# Altium schematic symbol library MCU_ST_STM8.SchLib: 34 symbols
Pins are listed as number, name and electrical type; pins without a type are passive.

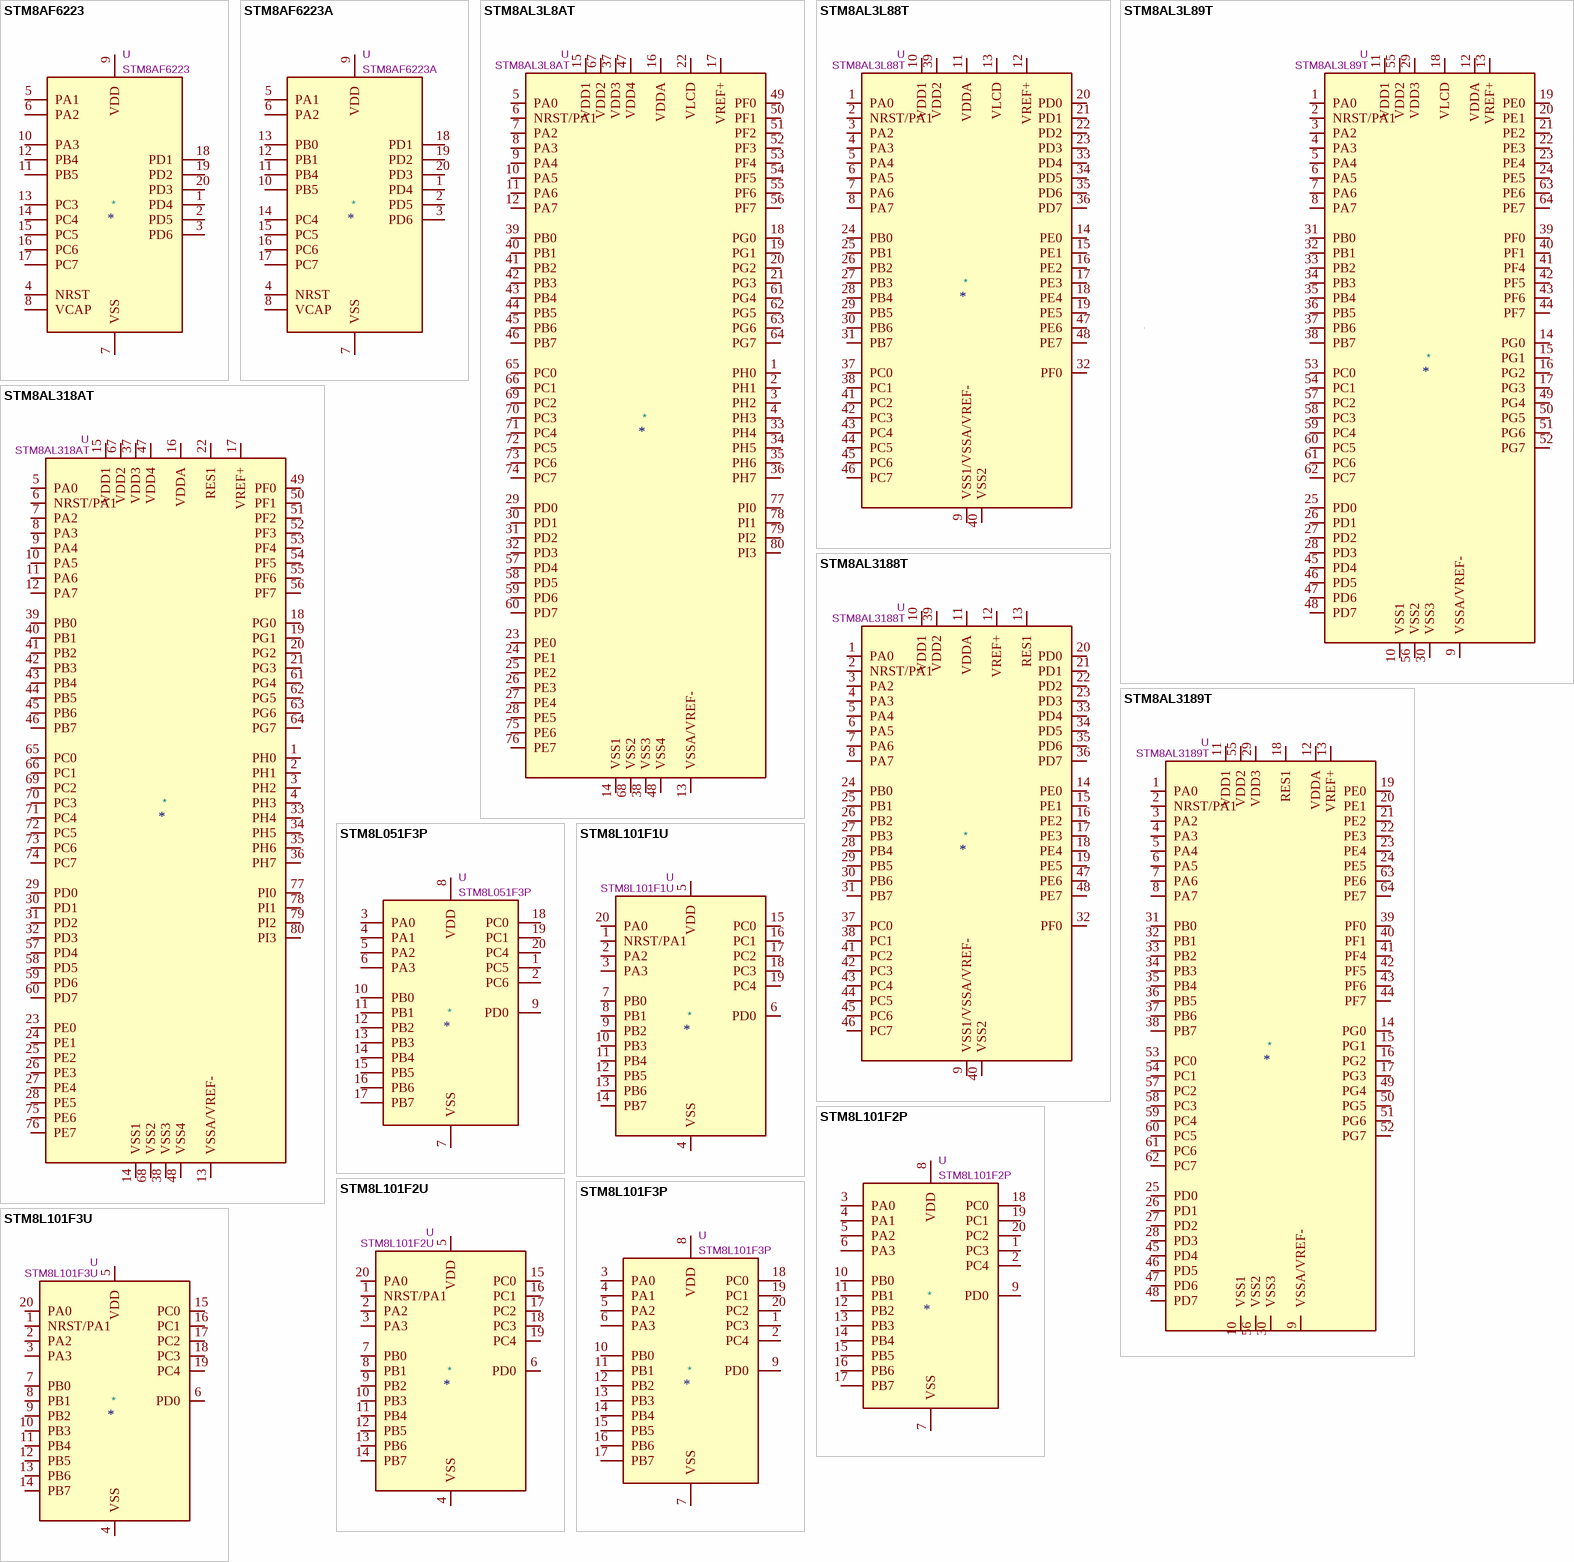
[diagram p0: symbols STM8AF6223 to STM8L101F3U]

## STM8AF6223
designator *  value STM8AF6223  Reference: U
ki_keywords: STM8 Microcontroller Automotive Line; ki_description: 16MHz, 8K Flash, 1K RAM, 640 EEPROM, USART, LIN,  I²C, SPI, ADC, TSSOP-20; ki_fp_filters: TSSOP*4.4x6.5mm*P0.65mm*; Footprint: Package_SO:TSSOP-20_4.4x6.5mm_P0.65mm; Datasheet: http://www.st.com/resource/en/datasheet/stm8af6223.pdf
pins: 1 PD4, 2 PD5, 3 PD6, 4 NRST, 5 PA1, 6 PA2, 7 VSS, 8 VCAP, 9 VDD, 10 PA3, 11 PB5, 12 PB4, 13 PC3, 14 PC4, 15 PC5, 16 PC6, 17 PC7, 18 PD1, 19 PD2, 20 PD3

## STM8AF6223A
designator *  value STM8AF6223A  Reference: U
ki_keywords: STM8 Microcontroller Automotive Line; ki_description: 16MHz, 8K Flash, 1K RAM, 640 EEPROM, USART, LIN,  I²C, SPI, ADC, TSSOP-20; ki_fp_filters: TSSOP*4.4x6.5mm*P0.65mm*; Footprint: Package_SO:TSSOP-20_4.4x6.5mm_P0.65mm; Datasheet: http://www.st.com/resource/en/datasheet/stm8af6223.pdf
pins: 1 PD4, 2 PD5, 3 PD6, 4 NRST, 5 PA1, 6 PA2, 7 VSS, 8 VCAP, 9 VDD, 10 PB5, 11 PB4, 12 PB1, 13 PB0, 14 PC4, 15 PC5, 16 PC6, 17 PC7, 18 PD1, 19 PD2, 20 PD3

## STM8AL3L8AT
designator *  value STM8AL3L8AT  Reference: U
ki_keywords: STM8 automotive ultra-low-power; ki_description: Automotive 8-bit ultra-low-power MCU, 64-Kbyte Flash with LCD, LQFP-80; ki_fp_filters: LQFP*14x14mm*P0.65mm*; Footprint: Package_QFP:LQFP-80_14x14mm_P0.65mm; Datasheet: https://www.st.com/resource/en/datasheet/stm8al3188.pdf
pins: 1 PH0, 2 PH1, 3 PH2, 4 PH3, 5 PA0, 6 NRST/PA1, 7 PA2, 8 PA3, 9 PA4, 10 PA5, 11 PA6, 12 PA7, 13 VSSA/VREF-, 14 VSS1, 15 VDD1, 16 VDDA, 17 VREF+, 18 PG0, 19 PG1, 20 PG2, 21 PG3, 22 VLCD, 23 PE0, 24 PE1, 25 PE2, 26 PE3, 27 PE4, 28 PE5, 29 PD0, 30 PD1, 31 PD2, 32 PD3, 33 PH4, 34 PH5, 35 PH6, 36 PH7, 37 VDD3, 38 VSS3, 39 PB0, 40 PB1, 41 PB2, 42 PB3, 43 PB4, 44 PB5, 45 PB6, 46 PB7, 47 VDD4, 48 VSS4, 49 PF0, 50 PF1, 51 PF2, 52 PF3, 53 PF4, 54 PF5, 55 PF6, 56 PF7, 57 PD4, 58 PD5, 59 PD6, 60 PD7, 61 PG4, 62 PG5, 63 PG6, 64 PG7, 65 PC0, 66 PC1, 67 VDD2, 68 VSS2, 69 PC2, 70 PC3, 71 PC4, 72 PC5, 73 PC6, 74 PC7, 75 PE6, 76 PE7, 77 PI0, 78 PI1, 79 PI2, 80 PI3

## STM8AL3L88T
designator *  value STM8AL3L88T  Reference: U
ki_keywords: STM8 automotive ultra-low-power; ki_description: Automotive 8-bit ultra-low-power MCU, 64-Kbyte Flash with LCD, LQFP-48; ki_fp_filters: LQFP*7x7mm*P0.5mm*; Footprint: Package_QFP:LQFP-48_7x7mm_P0.5mm; Datasheet: https://www.st.com/resource/en/datasheet/stm8al3188.pdf
pins: 1 PA0, 2 NRST/PA1, 3 PA2, 4 PA3, 5 PA4, 6 PA5, 7 PA6, 8 PA7, 9 VSS1/VSSA/VREF-, 10 VDD1, 11 VDDA, 12 VREF+, 13 VLCD, 14 PE0, 15 PE1, 16 PE2, 17 PE3, 18 PE4, 19 PE5, 20 PD0, 21 PD1, 22 PD2, 23 PD3, 24 PB0, 25 PB1, 26 PB2, 27 PB3, 28 PB4, 29 PB5, 30 PB6, 31 PB7, 32 PF0, 33 PD4, 34 PD5, 35 PD6, 36 PD7, 37 PC0, 38 PC1, 39 VDD2, 40 VSS2, 41 PC2, 42 PC3, 43 PC4, 44 PC5, 45 PC6, 46 PC7, 47 PE6, 48 PE7

## STM8AL3L89T
designator *  value STM8AL3L89T  Reference: U
ki_keywords: STM8 automotive ultra-low-power; ki_description: Automotive 8-bit ultra-low-power MCU, 64-Kbyte Flash with LCD, LQFP-64; ki_fp_filters: LQFP*10x10mm*P0.5mm*; Footprint: Package_QFP:LQFP-64_10x10mm_P0.5mm; Datasheet: https://www.st.com/resource/en/datasheet/stm8al3188.pdf
pins: 1 PA0, 2 NRST/PA1, 3 PA2, 4 PA3, 5 PA4, 6 PA5, 7 PA6, 8 PA7, 9 VSSA/VREF-, 10 VSS1, 11 VDD1, 12 VDDA, 13 VREF+, 14 PG0, 15 PG1, 16 PG2, 17 PG3, 18 VLCD, 19 PE0, 20 PE1, 21 PE2, 22 PE3, 23 PE4, 24 PE5, 25 PD0, 26 PD1, 27 PD2, 28 PD3, 29 VDD3, 30 VSS3, 31 PB0, 32 PB1, 33 PB2, 34 PB3, 35 PB4, 36 PB5, 37 PB6, 38 PB7, 39 PF0, 40 PF1, 41 PF4, 42 PF5, 43 PF6, 44 PF7, 45 PD4, 46 PD5, 47 PD6, 48 PD7, 49 PG4, 50 PG5, 51 PG6, 52 PG7, 53 PC0, 54 PC1, 55 VDD2, 56 VSS2, 57 PC2, 58 PC3, 59 PC4, 60 PC5, 61 PC6, 62 PC7, 63 PE6, 64 PE7

## STM8AL318AT
designator *  value STM8AL318AT  Reference: U
ki_keywords: STM8 automotive ultra-low-power; ki_description: Automotive 8-bit ultra-low-power MCU, 64-Kbyte Flash, LQFP-80; ki_fp_filters: LQFP*14x14mm*P0.65mm*; Footprint: Package_QFP:LQFP-80_14x14mm_P0.65mm; Datasheet: https://www.st.com/resource/en/datasheet/stm8al3188.pdf
pins: 1 PH0, 2 PH1, 3 PH2, 4 PH3, 5 PA0, 6 NRST/PA1, 7 PA2, 8 PA3, 9 PA4, 10 PA5, 11 PA6, 12 PA7, 13 VSSA/VREF-, 14 VSS1, 15 VDD1, 16 VDDA, 17 VREF+, 18 PG0, 19 PG1, 20 PG2, 21 PG3, 22 RES1, 23 PE0, 24 PE1, 25 PE2, 26 PE3, 27 PE4, 28 PE5, 29 PD0, 30 PD1, 31 PD2, 32 PD3, 33 PH4, 34 PH5, 35 PH6, 36 PH7, 37 VDD3, 38 VSS3, 39 PB0, 40 PB1, 41 PB2, 42 PB3, 43 PB4, 44 PB5, 45 PB6, 46 PB7, 47 VDD4, 48 VSS4, 49 PF0, 50 PF1, 51 PF2, 52 PF3, 53 PF4, 54 PF5, 55 PF6, 56 PF7, 57 PD4, 58 PD5, 59 PD6, 60 PD7, 61 PG4, 62 PG5, 63 PG6, 64 PG7, 65 PC0, 66 PC1, 67 VDD2, 68 VSS2, 69 PC2, 70 PC3, 71 PC4, 72 PC5, 73 PC6, 74 PC7, 75 PE6, 76 PE7, 77 PI0, 78 PI1, 79 PI2, 80 PI3

## STM8AL3188T
designator *  value STM8AL3188T  Reference: U
ki_keywords: STM8 automotive ultra-low-power; ki_description: Automotive 8-bit ultra-low-power MCU, 64-Kbyte Flash, LQFP-48; ki_fp_filters: LQFP*7x7mm*P0.5mm*; Footprint: Package_QFP:LQFP-48_7x7mm_P0.5mm; Datasheet: https://www.st.com/resource/en/datasheet/stm8al3188.pdf
pins: 1 PA0, 2 NRST/PA1, 3 PA2, 4 PA3, 5 PA4, 6 PA5, 7 PA6, 8 PA7, 9 VSS1/VSSA/VREF-, 10 VDD1, 11 VDDA, 12 VREF+, 13 RES1, 14 PE0, 15 PE1, 16 PE2, 17 PE3, 18 PE4, 19 PE5, 20 PD0, 21 PD1, 22 PD2, 23 PD3, 24 PB0, 25 PB1, 26 PB2, 27 PB3, 28 PB4, 29 PB5, 30 PB6, 31 PB7, 32 PF0, 33 PD4, 34 PD5, 35 PD6, 36 PD7, 37 PC0, 38 PC1, 39 VDD2, 40 VSS2, 41 PC2, 42 PC3, 43 PC4, 44 PC5, 45 PC6, 46 PC7, 47 PE6, 48 PE7

## STM8AL3189T
designator *  value STM8AL3189T  Reference: U
ki_keywords: STM8 automotive ultra-low-power; ki_description: Automotive 8-bit ultra-low-power MCU, 64-Kbyte Flash, LQFP-64; ki_fp_filters: LQFP*10x10mm*P0.5mm*; Footprint: Package_QFP:LQFP-64_10x10mm_P0.5mm; Datasheet: https://www.st.com/resource/en/datasheet/stm8al3188.pdf
pins: 1 PA0, 2 NRST/PA1, 3 PA2, 4 PA3, 5 PA4, 6 PA5, 7 PA6, 8 PA7, 9 VSSA/VREF-, 10 VSS1, 11 VDD1, 12 VDDA, 13 VREF+, 14 PG0, 15 PG1, 16 PG2, 17 PG3, 18 RES1, 19 PE0, 20 PE1, 21 PE2, 22 PE3, 23 PE4, 24 PE5, 25 PD0, 26 PD1, 27 PD2, 28 PD3, 29 VDD3, 30 VSS3, 31 PB0, 32 PB1, 33 PB2, 34 PB3, 35 PB4, 36 PB5, 37 PB6, 38 PB7, 39 PF0, 40 PF1, 41 PF4, 42 PF5, 43 PF6, 44 PF7, 45 PD4, 46 PD5, 47 PD6, 48 PD7, 49 PG4, 50 PG5, 51 PG6, 52 PG7, 53 PC0, 54 PC1, 55 VDD2, 56 VSS2, 57 PC2, 58 PC3, 59 PC4, 60 PC5, 61 PC6, 62 PC7, 63 PE6, 64 PE7

## STM8L051F3P
designator *  value STM8L051F3P  Reference: U
ki_keywords: STM8L Microcontroller Value Line Low Power; ki_description: 16MHz, 8K Flash, 1K RAM, 256 EEPROM, RTC, USART,  I²C, SPI, ADC, TSSOP-20; ki_fp_filters: TSSOP*4.4x6.5mm*P0.65mm*; Footprint: Package_SO:TSSOP-20_4.4x6.5mm_P0.65mm; Datasheet: http://www.st.com/st-web-ui/static/active/en/resource/technical/document/datasheet/DM00060484.pdf
pins: 1 PC5, 2 PC6, 3 PA0, 4 PA1, 5 PA2, 6 PA3, 7 VSS, 8 VDD, 9 PD0, 10 PB0, 11 PB1, 12 PB2, 13 PB3, 14 PB4, 15 PB5, 16 PB6, 17 PB7, 18 PC0, 19 PC1, 20 PC4

## STM8L101F1U
designator *  value STM8L101F1U  Reference: U
ki_keywords: STM8L Microcontroller Value Line Low Power; ki_description: 16MHz, 2K Flash, 1.5K RAM, 2K EEPROM, USART,  I²C, SPI, ADC, UFQFPN-20; ki_fp_filters: ST?UFQFPN*3x3mm*P0.5mm*; Footprint: Package_DFN_QFN:ST_UFQFPN-20_3x3mm_P0.5mm; Datasheet: https://www.st.com/resource/en/datasheet/stm8l101f1.pdf
pins: 1 NRST/PA1, 2 PA2, 3 PA3, 4 VSS, 5 VDD, 6 PD0, 7 PB0, 8 PB1, 9 PB2, 10 PB3, 11 PB4, 12 PB5, 13 PB6, 14 PB7, 15 PC0, 16 PC1, 17 PC2, 18 PC3, 19 PC4, 20 PA0

## STM8L101F2P
designator *  value STM8L101F2P  Reference: U
ki_keywords: STM8L Microcontroller Value Line Low Power; ki_description: 16MHz, 4K Flash, 1.5K RAM, 2K EEPROM, USART,  I²C, SPI, ADC, TSSOP-20; ki_fp_filters: TSSOP*4.4x6.5mm*P0.65mm*; Footprint: Package_SO:TSSOP-20_4.4x6.5mm_P0.65mm; Datasheet: http://www.st.com/st-web-ui/static/active/en/resource/technical/document/datasheet/CD00220591.pdf
pins: 1 PC3, 2 PC4, 3 PA0, 4 PA1, 5 PA2, 6 PA3, 7 VSS, 8 VDD, 9 PD0, 10 PB0, 11 PB1, 12 PB2, 13 PB3, 14 PB4, 15 PB5, 16 PB6, 17 PB7, 18 PC0, 19 PC1, 20 PC2

## STM8L101F2U
designator *  value STM8L101F2U  Reference: U
ki_keywords: STM8L Microcontroller Value Line Low Power; ki_description: 16MHz, 4K Flash, 1.5K RAM, 2K EEPROM, USART,  I²C, SPI, ADC, UFQFPN-20; ki_fp_filters: ST?UFQFPN*3x3mm*P0.5mm*; Footprint: Package_DFN_QFN:ST_UFQFPN-20_3x3mm_P0.5mm; Datasheet: https://www.st.com/resource/en/datasheet/stm8l101f1.pdf
pins: 1 NRST/PA1, 2 PA2, 3 PA3, 4 VSS, 5 VDD, 6 PD0, 7 PB0, 8 PB1, 9 PB2, 10 PB3, 11 PB4, 12 PB5, 13 PB6, 14 PB7, 15 PC0, 16 PC1, 17 PC2, 18 PC3, 19 PC4, 20 PA0

## STM8L101F3P
designator *  value STM8L101F3P  Reference: U
ki_keywords: STM8L Microcontroller Value Line Low Power; ki_description: 16MHz, 8K Flash, 1.5K RAM, 2K EEPROM, USART, I²C, SPI, ADC, TSSOP-20; ki_fp_filters: TSSOP*4.4x6.5mm*P0.65mm*; Footprint: Package_SO:TSSOP-20_4.4x6.5mm_P0.65mm; Datasheet: http://www.st.com/st-web-ui/static/active/en/resource/technical/document/datasheet/CD00220591.pdf
pins: 1 PC3, 2 PC4, 3 PA0, 4 PA1, 5 PA2, 6 PA3, 7 VSS, 8 VDD, 9 PD0, 10 PB0, 11 PB1, 12 PB2, 13 PB3, 14 PB4, 15 PB5, 16 PB6, 17 PB7, 18 PC0, 19 PC1, 20 PC2

## STM8L101F3U
designator *  value STM8L101F3U  Reference: U
ki_keywords: STM8L Microcontroller Value Line Low Power; ki_description: 16MHz, 8K Flash, 1.5K RAM, 2K EEPROM, USART,  I²C, SPI, ADC, UFQFPN-20; ki_fp_filters: ST?UFQFPN*3x3mm*P0.5mm*; Footprint: Package_DFN_QFN:ST_UFQFPN-20_3x3mm_P0.5mm; Datasheet: https://www.st.com/resource/en/datasheet/stm8l101f1.pdf
pins: 1 NRST/PA1, 2 PA2, 3 PA3, 4 VSS, 5 VDD, 6 PD0, 7 PB0, 8 PB1, 9 PB2, 10 PB3, 11 PB4, 12 PB5, 13 PB6, 14 PB7, 15 PC0, 16 PC1, 17 PC2, 18 PC3, 19 PC4, 20 PA0

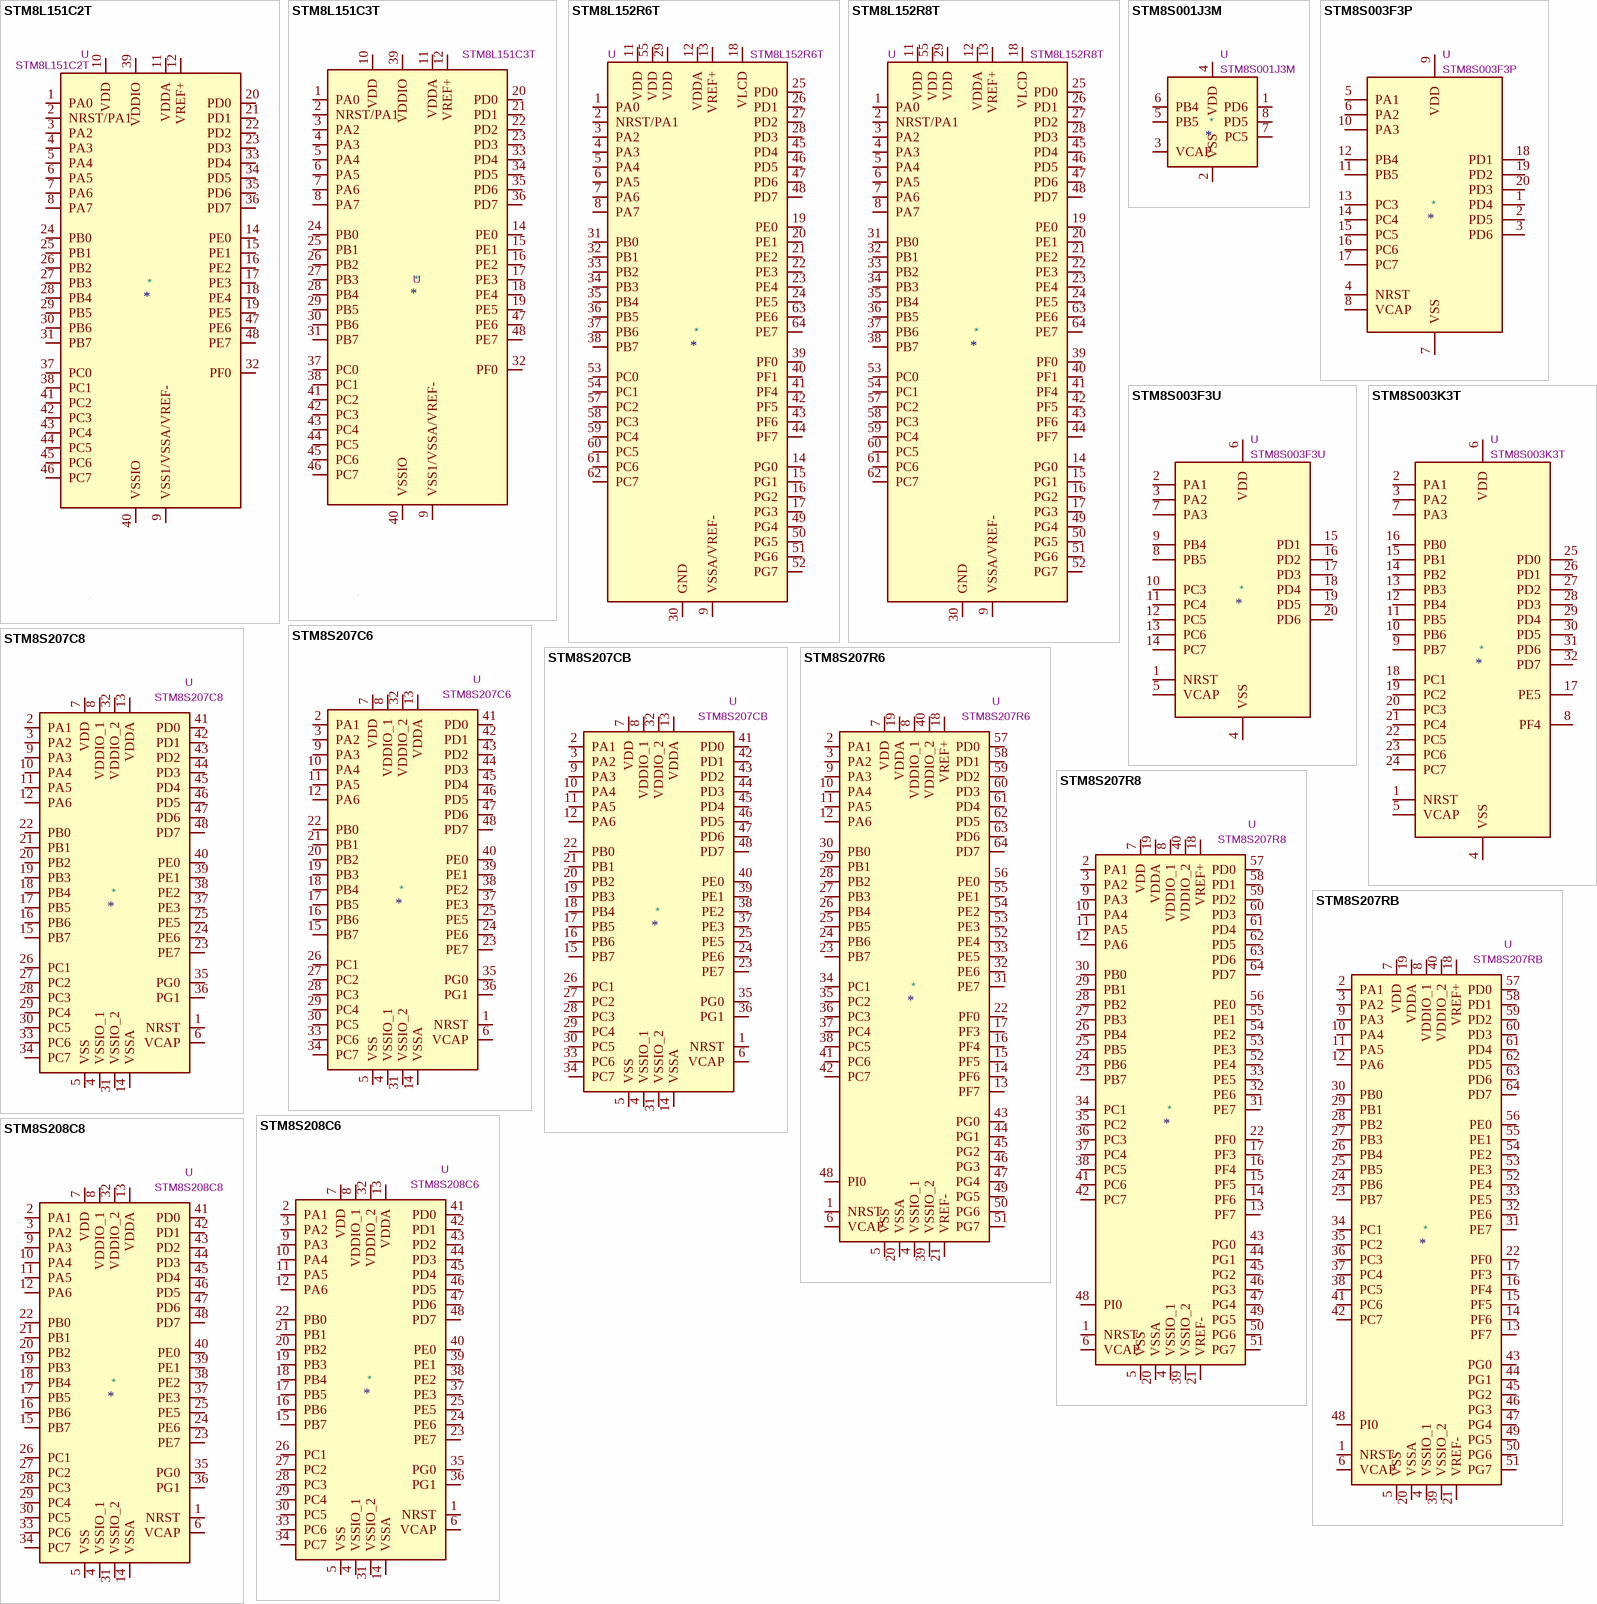
[diagram p1: symbols STM8L151C2T to STM8S208C8]

## STM8L151C2T
designator *  value STM8L151C2T  Reference: U
ki_keywords: STM8 ultra-low-power; ki_description: 8-bit ultra-low-power MCU, 4 KB Flash, 256 bytes data EEPROM, LQFP-48; ki_fp_filters: LQFP*7x7mm*P0.5mm*; Footprint: Package_QFP:LQFP-48_7x7mm_P0.5mm; Datasheet: https://www.st.com/resource/en/datasheet/stm8l151c3.pdf
pins: 1 PA0, 2 NRST/PA1, 3 PA2, 4 PA3, 5 PA4, 6 PA5, 7 PA6, 8 PA7, 9 VSS1/VSSA/VREF-, 10 VDD, 11 VDDA, 12 VREF+, 13 NC hidden, 14 PE0, 15 PE1, 16 PE2, 17 PE3, 18 PE4, 19 PE5, 20 PD0, 21 PD1, 22 PD2, 23 PD3, 24 PB0, 25 PB1, 26 PB2, 27 PB3, 28 PB4, 29 PB5, 30 PB6, 31 PB7, 32 PF0, 33 PD4, 34 PD5, 35 PD6, 36 PD7, 37 PC0, 38 PC1, 39 VDDIO, 40 VSSIO, 41 PC2, 42 PC3, 43 PC4, 44 PC5, 45 PC6, 46 PC7, 47 PE6, 48 PE7

## STM8L151C3T
designator *  value STM8L151C3T  Reference: U
ki_keywords: STM8 ultra-low-power; ki_description: 8-bit ultra-low-power MCU, 8 KB Flash, 256 bytes data EEPROM, LQFP-48; ki_fp_filters: LQFP*7x7mm*P0.5mm*; Footprint: Package_QFP:LQFP-48_7x7mm_P0.5mm; Datasheet: https://www.st.com/resource/en/datasheet/stm8l151c3.pdf
pins: 1 PA0, 2 NRST/PA1, 3 PA2, 4 PA3, 5 PA4, 6 PA5, 7 PA6, 8 PA7, 9 VSS1/VSSA/VREF-, 10 VDD, 11 VDDA, 12 VREF+, 13 NC hidden, 14 PE0, 15 PE1, 16 PE2, 17 PE3, 18 PE4, 19 PE5, 20 PD0, 21 PD1, 22 PD2, 23 PD3, 24 PB0, 25 PB1, 26 PB2, 27 PB3, 28 PB4, 29 PB5, 30 PB6, 31 PB7, 32 PF0, 33 PD4, 34 PD5, 35 PD6, 36 PD7, 37 PC0, 38 PC1, 39 VDDIO, 40 VSSIO, 41 PC2, 42 PC3, 43 PC4, 44 PC5, 45 PC6, 46 PC7, 47 PE6, 48 PE7

## STM8L152R6T
designator *  value STM8L152R6T  Reference: U
ki_keywords: STM8L Microcontroller Low Power LCD; ki_description: 16MHz, 32K Flash, 2K EEPROM, LCD, USART, I²C, SPI, ADC, DAC, LQFP-64; ki_fp_filters: LQFP*10x10mm*P0.5mm*; Footprint: Package_QFP:LQFP-64_10x10mm_P0.5mm; Datasheet: https://www.st.com/resource/en/datasheet/stm8l152r6.pdf
pins: 1 PA0, 2 NRST/PA1, 3 PA2, 4 PA3, 5 PA4, 6 PA5, 7 PA6, 8 PA7, 9 VSSA/VREF-, 10 GND hidden, 11 VDD, 12 VDDA, 13 VREF+, 14 PG0, 15 PG1, 16 PG2, 17 PG3, 18 VLCD, 19 PE0, 20 PE1, 21 PE2, 22 PE3, 23 PE4, 24 PE5, 25 PD0, 26 PD1, 27 PD2, 28 PD3, 29 VDD, 30 GND, 31 PB0, 32 PB1, 33 PB2, 34 PB3, 35 PB4, 36 PB5, 37 PB6, 38 PB7, 39 PF0, 40 PF1, 41 PF4, 42 PF5, 43 PF6, 44 PF7, 45 PD4, 46 PD5, 47 PD6, 48 PD7, 49 PG4, 50 PG5, 51 PG6, 52 PG7, 53 PC0, 54 PC1, 55 VDD, 56 GND hidden, 57 PC2, 58 PC3, 59 PC4, 60 PC5, 61 PC6, 62 PC7, 63 PE6, 64 PE7

## STM8L152R8T
designator *  value STM8L152R8T  Reference: U
ki_keywords: STM8L Microcontroller Low Power LCD; ki_description: 16MHz, 64K Flash, 2K EEPROM, LCD, USART, I²C, SPI, ADC, DAC, LQFP-64; ki_fp_filters: LQFP*10x10mm*P0.5mm*; Footprint: Package_QFP:LQFP-64_10x10mm_P0.5mm; Datasheet: https://www.st.com/resource/en/datasheet/stm8l152r8.pdf
pins: 1 PA0, 2 NRST/PA1, 3 PA2, 4 PA3, 5 PA4, 6 PA5, 7 PA6, 8 PA7, 9 VSSA/VREF-, 10 GND hidden, 11 VDD, 12 VDDA, 13 VREF+, 14 PG0, 15 PG1, 16 PG2, 17 PG3, 18 VLCD, 19 PE0, 20 PE1, 21 PE2, 22 PE3, 23 PE4, 24 PE5, 25 PD0, 26 PD1, 27 PD2, 28 PD3, 29 VDD, 30 GND, 31 PB0, 32 PB1, 33 PB2, 34 PB3, 35 PB4, 36 PB5, 37 PB6, 38 PB7, 39 PF0, 40 PF1, 41 PF4, 42 PF5, 43 PF6, 44 PF7, 45 PD4, 46 PD5, 47 PD6, 48 PD7, 49 PG4, 50 PG5, 51 PG6, 52 PG7, 53 PC0, 54 PC1, 55 VDD, 56 GND hidden, 57 PC2, 58 PC3, 59 PC4, 60 PC5, 61 PC6, 62 PC7, 63 PE6, 64 PE7

## STM8S001J3M
designator *  value STM8S001J3M  Reference: U
ki_keywords: STM8 Microcontroller Value Line; ki_description: 16MHz, 8K Flash, 1K RAM, 128 EEPROM, SO-8; ki_fp_filters: SO*3.9x4.9mm*P1.27mm*; Footprint: Package_SO:SO-8_3.9x4.9mm_P1.27mm; Datasheet: https://www.st.com/resource/en/datasheet/stm8s001j3.pdf
pins: 1 PD6, 2 VSS, 3 VCAP, 4 VDD, 5 PB5, 6 PB4, 7 PC5, 8 PD5

## STM8S003F3P
designator *  value STM8S003F3P  Reference: U
ki_keywords: STM8S Mainstream Value line 8-bit, 16MHz, 1k RAM, 128 EEPROM; ki_description: 16MHz, 8K Flash, 1K RAM, 128 EEPROM, USART, I²C, SPI, TSSOP-20; ki_fp_filters: TSSOP*4.4x6.5mm*P0.65mm*; Footprint: Package_SO:TSSOP-20_4.4x6.5mm_P0.65mm; Datasheet: http://www.st.com/st-web-ui/static/active/en/resource/technical/document/datasheet/DM00024550.pdf
pins: 1 PD4, 2 PD5, 3 PD6, 4 NRST, 5 PA1, 6 PA2, 7 VSS, 8 VCAP, 9 VDD, 10 PA3, 11 PB5, 12 PB4, 13 PC3, 14 PC4, 15 PC5, 16 PC6, 17 PC7, 18 PD1, 19 PD2, 20 PD3

## STM8S003F3U
designator *  value STM8S003F3U  Reference: U
ki_keywords: STM8S Mainstream Value line 8-bit, 16MHz, 1k RAM, 128 EEPROM; ki_description: 16MHz, 8K Flash, 1K RAM, 128 EEPROM, USART, I²C, SPI, UFQFPN-20; ki_fp_filters: ST?UFQFPN*3x3mm*P0.5mm*; Footprint: Package_DFN_QFN:ST_UFQFPN-20_3x3mm_P0.5mm; Datasheet: http://www.st.com/st-web-ui/static/active/en/resource/technical/document/datasheet/DM00024550.pdf
pins: 1 NRST, 2 PA1, 3 PA2, 4 VSS, 5 VCAP, 6 VDD, 7 PA3, 8 PB5, 9 PB4, 10 PC3, 11 PC4, 12 PC5, 13 PC6, 14 PC7, 15 PD1, 16 PD2, 17 PD3, 18 PD4, 19 PD5, 20 PD6

## STM8S003K3T
designator *  value STM8S003K3T  Reference: U
ki_keywords: STM8 Microcontroller Value Line; ki_description: 16MHz, 8K Flash, 1K RAM, 128 EEPROM, LQFP-32; ki_fp_filters: LQFP*7x7mm*P0.8mm*; Footprint: Package_QFP:LQFP-32_7x7mm_P0.8mm; Datasheet: http://www.st.com/st-web-ui/static/active/en/resource/technical/document/datasheet/DM00024550.pdf
pins: 1 NRST, 2 PA1, 3 PA2, 4 VSS, 5 VCAP, 6 VDD, 7 PA3, 8 PF4, 9 PB7, 10 PB6, 11 PB5, 12 PB4, 13 PB3, 14 PB2, 15 PB1, 16 PB0, 17 PE5, 18 PC1, 19 PC2, 20 PC3, 21 PC4, 22 PC5, 23 PC6, 24 PC7, 25 PD0, 26 PD1, 27 PD2, 28 PD3, 29 PD4, 30 PD5, 31 PD6, 32 PD7

## STM8S207C6
designator *  value STM8S207C6  Reference: U
ki_keywords: STM8 Microcontroller Performance Line; ki_description: 24MHz, 32K Flash, 2K EEPROM, 10-bit ADC, 2 UARTs, SPI, I²C, LQFP-48; ki_fp_filters: LQFP*7x7mm*P0.5mm*; Footprint: Package_QFP:LQFP-48_7x7mm_P0.5mm; Datasheet: https://www.st.com/resource/en/datasheet/stm8s208cb.pdf
pins: 1 NRST, 2 PA1, 3 PA2, 4 VSSIO_1, 5 VSS, 6 VCAP, 7 VDD, 8 VDDIO_1, 9 PA3, 10 PA4, 11 PA5, 12 PA6, 13 VDDA, 14 VSSA, 15 PB7, 16 PB6, 17 PB5, 18 PB4, 19 PB3, 20 PB2, 21 PB1, 22 PB0, 23 PE7, 24 PE6, 25 PE5, 26 PC1, 27 PC2, 28 PC3, 29 PC4, 30 PC5, 31 VSSIO_2, 32 VDDIO_2, 33 PC6, 34 PC7, 35 PG0, 36 PG1, 37 PE3, 38 PE2, 39 PE1, 40 PE0, 41 PD0, 42 PD1, 43 PD2, 44 PD3, 45 PD4, 46 PD5, 47 PD6, 48 PD7

## STM8S207C8
designator *  value STM8S207C8  Reference: U
ki_keywords: STM8 Microcontroller Performance Line; ki_description: 24MHz, 64K Flash, 2K EEPROM, 10-bit ADC, 2 UARTs, SPI, I²C, LQFP-48; ki_fp_filters: LQFP*7x7mm*P0.5mm*; Footprint: Package_QFP:LQFP-48_7x7mm_P0.5mm; Datasheet: https://www.st.com/resource/en/datasheet/stm8s208cb.pdf
pins: 1 NRST, 2 PA1, 3 PA2, 4 VSSIO_1, 5 VSS, 6 VCAP, 7 VDD, 8 VDDIO_1, 9 PA3, 10 PA4, 11 PA5, 12 PA6, 13 VDDA, 14 VSSA, 15 PB7, 16 PB6, 17 PB5, 18 PB4, 19 PB3, 20 PB2, 21 PB1, 22 PB0, 23 PE7, 24 PE6, 25 PE5, 26 PC1, 27 PC2, 28 PC3, 29 PC4, 30 PC5, 31 VSSIO_2, 32 VDDIO_2, 33 PC6, 34 PC7, 35 PG0, 36 PG1, 37 PE3, 38 PE2, 39 PE1, 40 PE0, 41 PD0, 42 PD1, 43 PD2, 44 PD3, 45 PD4, 46 PD5, 47 PD6, 48 PD7

## STM8S207CB
designator *  value STM8S207CB  Reference: U
ki_keywords: STM8 Microcontroller Performance Line; ki_description: 24MHz, 128K Flash, 2K EEPROM, 10-bit ADC, 2 UARTs, SPI, I²C, LQFP-48; ki_fp_filters: LQFP*7x7mm*P0.5mm*; Footprint: Package_QFP:LQFP-48_7x7mm_P0.5mm; Datasheet: https://www.st.com/resource/en/datasheet/stm8s208cb.pdf
pins: 1 NRST, 2 PA1, 3 PA2, 4 VSSIO_1, 5 VSS, 6 VCAP, 7 VDD, 8 VDDIO_1, 9 PA3, 10 PA4, 11 PA5, 12 PA6, 13 VDDA, 14 VSSA, 15 PB7, 16 PB6, 17 PB5, 18 PB4, 19 PB3, 20 PB2, 21 PB1, 22 PB0, 23 PE7, 24 PE6, 25 PE5, 26 PC1, 27 PC2, 28 PC3, 29 PC4, 30 PC5, 31 VSSIO_2, 32 VDDIO_2, 33 PC6, 34 PC7, 35 PG0, 36 PG1, 37 PE3, 38 PE2, 39 PE1, 40 PE0, 41 PD0, 42 PD1, 43 PD2, 44 PD3, 45 PD4, 46 PD5, 47 PD6, 48 PD7

## STM8S207R6
designator *  value STM8S207R6  Reference: U
ki_keywords: STM8 Microcontroller Performance Line; ki_description: 24MHz, 32K Flash, 2K EEPROM, 10-bit ADC, 2 UARTs, SPI, I²C, LQFP-64; ki_fp_filters: LQFP*10x10mm*P0.5mm*; Footprint: Package_QFP:LQFP-64_10x10mm_P0.5mm; Datasheet: https://www.st.com/resource/en/datasheet/stm8s208rb.pdf
pins: 1 NRST, 2 PA1, 3 PA2, 4 VSSIO_1, 5 VSS, 6 VCAP, 7 VDD, 8 VDDIO_1, 9 PA3, 10 PA4, 11 PA5, 12 PA6, 13 PF7, 14 PF6, 15 PF5, 16 PF4, 17 PF3, 18 VREF+, 19 VDDA, 20 VSSA, 21 VREF-, 22 PF0, 23 PB7, 24 PB6, 25 PB5, 26 PB4, 27 PB3, 28 PB2, 29 PB1, 30 PB0, 31 PE7, 32 PE6, 33 PE5, 34 PC1, 35 PC2, 36 PC3, 37 PC4, 38 PC5, 39 VSSIO_2, 40 VDDIO_2, 41 PC6, 42 PC7, 43 PG0, 44 PG1, 45 PG2, 46 PG3, 47 PG4, 48 PI0, 49 PG5, 50 PG6, 51 PG7, 52 PE4, 53 PE3, 54 PE2, 55 PE1, 56 PE0, 57 PD0, 58 PD1, 59 PD2, 60 PD3, 61 PD4, 62 PD5, 63 PD6, 64 PD7

## STM8S207R8
designator *  value STM8S207R8  Reference: U
ki_keywords: STM8 Microcontroller Performance Line; ki_description: 24MHz, 64K Flash, 2K EEPROM, 10-bit ADC, 2 UARTs, SPI, I²C, LQFP-64; ki_fp_filters: LQFP*10x10mm*P0.5mm*; Footprint: Package_QFP:LQFP-64_10x10mm_P0.5mm; Datasheet: https://www.st.com/resource/en/datasheet/stm8s208rb.pdf
pins: 1 NRST, 2 PA1, 3 PA2, 4 VSSIO_1, 5 VSS, 6 VCAP, 7 VDD, 8 VDDIO_1, 9 PA3, 10 PA4, 11 PA5, 12 PA6, 13 PF7, 14 PF6, 15 PF5, 16 PF4, 17 PF3, 18 VREF+, 19 VDDA, 20 VSSA, 21 VREF-, 22 PF0, 23 PB7, 24 PB6, 25 PB5, 26 PB4, 27 PB3, 28 PB2, 29 PB1, 30 PB0, 31 PE7, 32 PE6, 33 PE5, 34 PC1, 35 PC2, 36 PC3, 37 PC4, 38 PC5, 39 VSSIO_2, 40 VDDIO_2, 41 PC6, 42 PC7, 43 PG0, 44 PG1, 45 PG2, 46 PG3, 47 PG4, 48 PI0, 49 PG5, 50 PG6, 51 PG7, 52 PE4, 53 PE3, 54 PE2, 55 PE1, 56 PE0, 57 PD0, 58 PD1, 59 PD2, 60 PD3, 61 PD4, 62 PD5, 63 PD6, 64 PD7

## STM8S207RB
designator *  value STM8S207RB  Reference: U
ki_keywords: STM8 Microcontroller Performance Line; ki_description: 24MHz, 128K Flash, 2K EEPROM, 10-bit ADC, 2 UARTs, SPI, I²C, LQFP-64; ki_fp_filters: LQFP*10x10mm*P0.5mm*; Footprint: Package_QFP:LQFP-64_10x10mm_P0.5mm; Datasheet: https://www.st.com/resource/en/datasheet/stm8s208rb.pdf
pins: 1 NRST, 2 PA1, 3 PA2, 4 VSSIO_1, 5 VSS, 6 VCAP, 7 VDD, 8 VDDIO_1, 9 PA3, 10 PA4, 11 PA5, 12 PA6, 13 PF7, 14 PF6, 15 PF5, 16 PF4, 17 PF3, 18 VREF+, 19 VDDA, 20 VSSA, 21 VREF-, 22 PF0, 23 PB7, 24 PB6, 25 PB5, 26 PB4, 27 PB3, 28 PB2, 29 PB1, 30 PB0, 31 PE7, 32 PE6, 33 PE5, 34 PC1, 35 PC2, 36 PC3, 37 PC4, 38 PC5, 39 VSSIO_2, 40 VDDIO_2, 41 PC6, 42 PC7, 43 PG0, 44 PG1, 45 PG2, 46 PG3, 47 PG4, 48 PI0, 49 PG5, 50 PG6, 51 PG7, 52 PE4, 53 PE3, 54 PE2, 55 PE1, 56 PE0, 57 PD0, 58 PD1, 59 PD2, 60 PD3, 61 PD4, 62 PD5, 63 PD6, 64 PD7

## STM8S208C6
designator *  value STM8S208C6  Reference: U
ki_keywords: STM8 Microcontroller Performance Line; ki_description: 24MHz, 32K Flash, 2K EEPROM, 10-bit ADC, 2 UARTs, SPI, I²C, CAN, LQFP-48; ki_fp_filters: LQFP*7x7mm*P0.5mm*; Footprint: Package_QFP:LQFP-48_7x7mm_P0.5mm; Datasheet: https://www.st.com/resource/en/datasheet/stm8s208cb.pdf
pins: 1 NRST, 2 PA1, 3 PA2, 4 VSSIO_1, 5 VSS, 6 VCAP, 7 VDD, 8 VDDIO_1, 9 PA3, 10 PA4, 11 PA5, 12 PA6, 13 VDDA, 14 VSSA, 15 PB7, 16 PB6, 17 PB5, 18 PB4, 19 PB3, 20 PB2, 21 PB1, 22 PB0, 23 PE7, 24 PE6, 25 PE5, 26 PC1, 27 PC2, 28 PC3, 29 PC4, 30 PC5, 31 VSSIO_2, 32 VDDIO_2, 33 PC6, 34 PC7, 35 PG0, 36 PG1, 37 PE3, 38 PE2, 39 PE1, 40 PE0, 41 PD0, 42 PD1, 43 PD2, 44 PD3, 45 PD4, 46 PD5, 47 PD6, 48 PD7

## STM8S208C8
designator *  value STM8S208C8  Reference: U
ki_keywords: STM8 Microcontroller Performance Line; ki_description: 24MHz, 64K Flash, 2K EEPROM, 10-bit ADC, 2 UARTs, SPI, I²C, CAN, LQFP-48; ki_fp_filters: LQFP*7x7mm*P0.5mm*; Footprint: Package_QFP:LQFP-48_7x7mm_P0.5mm; Datasheet: https://www.st.com/resource/en/datasheet/stm8s208cb.pdf
pins: 1 NRST, 2 PA1, 3 PA2, 4 VSSIO_1, 5 VSS, 6 VCAP, 7 VDD, 8 VDDIO_1, 9 PA3, 10 PA4, 11 PA5, 12 PA6, 13 VDDA, 14 VSSA, 15 PB7, 16 PB6, 17 PB5, 18 PB4, 19 PB3, 20 PB2, 21 PB1, 22 PB0, 23 PE7, 24 PE6, 25 PE5, 26 PC1, 27 PC2, 28 PC3, 29 PC4, 30 PC5, 31 VSSIO_2, 32 VDDIO_2, 33 PC6, 34 PC7, 35 PG0, 36 PG1, 37 PE3, 38 PE2, 39 PE1, 40 PE0, 41 PD0, 42 PD1, 43 PD2, 44 PD3, 45 PD4, 46 PD5, 47 PD6, 48 PD7

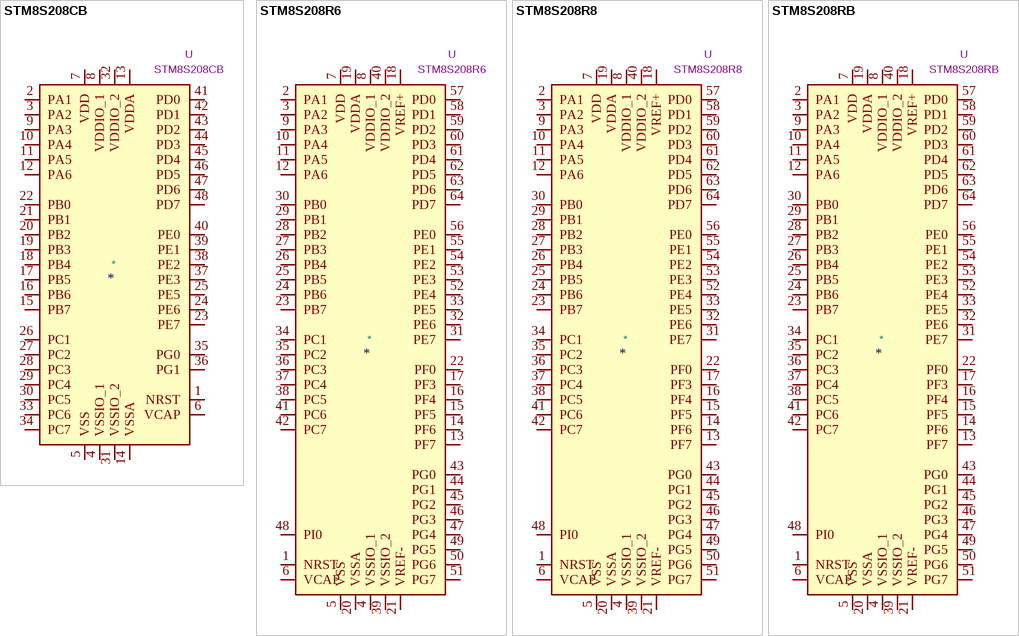
[diagram p2: symbols STM8S208CB to STM8S208RB]

## STM8S208CB
designator *  value STM8S208CB  Reference: U
ki_keywords: STM8 Microcontroller Performance Line; ki_description: 24MHz, 128K Flash, 2K EEPROM, 10-bit ADC, 2 UARTs, SPI, I²C, CAN, LQFP-48; ki_fp_filters: LQFP*7x7mm*P0.5mm*; Footprint: Package_QFP:LQFP-48_7x7mm_P0.5mm; Datasheet: https://www.st.com/resource/en/datasheet/stm8s208cb.pdf
pins: 1 NRST, 2 PA1, 3 PA2, 4 VSSIO_1, 5 VSS, 6 VCAP, 7 VDD, 8 VDDIO_1, 9 PA3, 10 PA4, 11 PA5, 12 PA6, 13 VDDA, 14 VSSA, 15 PB7, 16 PB6, 17 PB5, 18 PB4, 19 PB3, 20 PB2, 21 PB1, 22 PB0, 23 PE7, 24 PE6, 25 PE5, 26 PC1, 27 PC2, 28 PC3, 29 PC4, 30 PC5, 31 VSSIO_2, 32 VDDIO_2, 33 PC6, 34 PC7, 35 PG0, 36 PG1, 37 PE3, 38 PE2, 39 PE1, 40 PE0, 41 PD0, 42 PD1, 43 PD2, 44 PD3, 45 PD4, 46 PD5, 47 PD6, 48 PD7

## STM8S208R6
designator *  value STM8S208R6  Reference: U
ki_keywords: STM8 Microcontroller Performance Line; ki_description: 24MHz, 32K Flash, 2K EEPROM, 10-bit ADC, 2 UARTs, SPI, I²C, CAN, LQFP-64; ki_fp_filters: LQFP*10x10mm*P0.5mm*; Footprint: Package_QFP:LQFP-64_10x10mm_P0.5mm; Datasheet: https://www.st.com/resource/en/datasheet/stm8s208rb.pdf
pins: 1 NRST, 2 PA1, 3 PA2, 4 VSSIO_1, 5 VSS, 6 VCAP, 7 VDD, 8 VDDIO_1, 9 PA3, 10 PA4, 11 PA5, 12 PA6, 13 PF7, 14 PF6, 15 PF5, 16 PF4, 17 PF3, 18 VREF+, 19 VDDA, 20 VSSA, 21 VREF-, 22 PF0, 23 PB7, 24 PB6, 25 PB5, 26 PB4, 27 PB3, 28 PB2, 29 PB1, 30 PB0, 31 PE7, 32 PE6, 33 PE5, 34 PC1, 35 PC2, 36 PC3, 37 PC4, 38 PC5, 39 VSSIO_2, 40 VDDIO_2, 41 PC6, 42 PC7, 43 PG0, 44 PG1, 45 PG2, 46 PG3, 47 PG4, 48 PI0, 49 PG5, 50 PG6, 51 PG7, 52 PE4, 53 PE3, 54 PE2, 55 PE1, 56 PE0, 57 PD0, 58 PD1, 59 PD2, 60 PD3, 61 PD4, 62 PD5, 63 PD6, 64 PD7

## STM8S208R8
designator *  value STM8S208R8  Reference: U
ki_keywords: STM8 Microcontroller Performance Line; ki_description: 24MHz, 64K Flash, 2K EEPROM, 10-bit ADC, 2 UARTs, SPI, I²C, CAN, LQFP-64; ki_fp_filters: LQFP*10x10mm*P0.5mm*; Footprint: Package_QFP:LQFP-64_10x10mm_P0.5mm; Datasheet: https://www.st.com/resource/en/datasheet/stm8s208rb.pdf
pins: 1 NRST, 2 PA1, 3 PA2, 4 VSSIO_1, 5 VSS, 6 VCAP, 7 VDD, 8 VDDIO_1, 9 PA3, 10 PA4, 11 PA5, 12 PA6, 13 PF7, 14 PF6, 15 PF5, 16 PF4, 17 PF3, 18 VREF+, 19 VDDA, 20 VSSA, 21 VREF-, 22 PF0, 23 PB7, 24 PB6, 25 PB5, 26 PB4, 27 PB3, 28 PB2, 29 PB1, 30 PB0, 31 PE7, 32 PE6, 33 PE5, 34 PC1, 35 PC2, 36 PC3, 37 PC4, 38 PC5, 39 VSSIO_2, 40 VDDIO_2, 41 PC6, 42 PC7, 43 PG0, 44 PG1, 45 PG2, 46 PG3, 47 PG4, 48 PI0, 49 PG5, 50 PG6, 51 PG7, 52 PE4, 53 PE3, 54 PE2, 55 PE1, 56 PE0, 57 PD0, 58 PD1, 59 PD2, 60 PD3, 61 PD4, 62 PD5, 63 PD6, 64 PD7

## STM8S208RB
designator *  value STM8S208RB  Reference: U
ki_keywords: STM8 Microcontroller Performance Line; ki_description: 24MHz, 128K Flash, 2K EEPROM, 10-bit ADC, 2 UARTs, SPI, I²C, CAN, LQFP-64; ki_fp_filters: LQFP*10x10mm*P0.5mm*; Footprint: Package_QFP:LQFP-64_10x10mm_P0.5mm; Datasheet: https://www.st.com/resource/en/datasheet/stm8s208rb.pdf
pins: 1 NRST, 2 PA1, 3 PA2, 4 VSSIO_1, 5 VSS, 6 VCAP, 7 VDD, 8 VDDIO_1, 9 PA3, 10 PA4, 11 PA5, 12 PA6, 13 PF7, 14 PF6, 15 PF5, 16 PF4, 17 PF3, 18 VREF+, 19 VDDA, 20 VSSA, 21 VREF-, 22 PF0, 23 PB7, 24 PB6, 25 PB5, 26 PB4, 27 PB3, 28 PB2, 29 PB1, 30 PB0, 31 PE7, 32 PE6, 33 PE5, 34 PC1, 35 PC2, 36 PC3, 37 PC4, 38 PC5, 39 VSSIO_2, 40 VDDIO_2, 41 PC6, 42 PC7, 43 PG0, 44 PG1, 45 PG2, 46 PG3, 47 PG4, 48 PI0, 49 PG5, 50 PG6, 51 PG7, 52 PE4, 53 PE3, 54 PE2, 55 PE1, 56 PE0, 57 PD0, 58 PD1, 59 PD2, 60 PD3, 61 PD4, 62 PD5, 63 PD6, 64 PD7